# Altium footprint library TSM-102-01-L-SV-P-TR.PcbLib: 1 footprints
Each footprint in its own frame and in the unit in brackets; x right, y up, seen from the top. Pads: shape width x height; smd on the part's side, far side on the other; paste and mask are expansions set on the pad; w line width, h text height; cw(c..) or ccw(c..) is an arc to the next point about the centre after c.
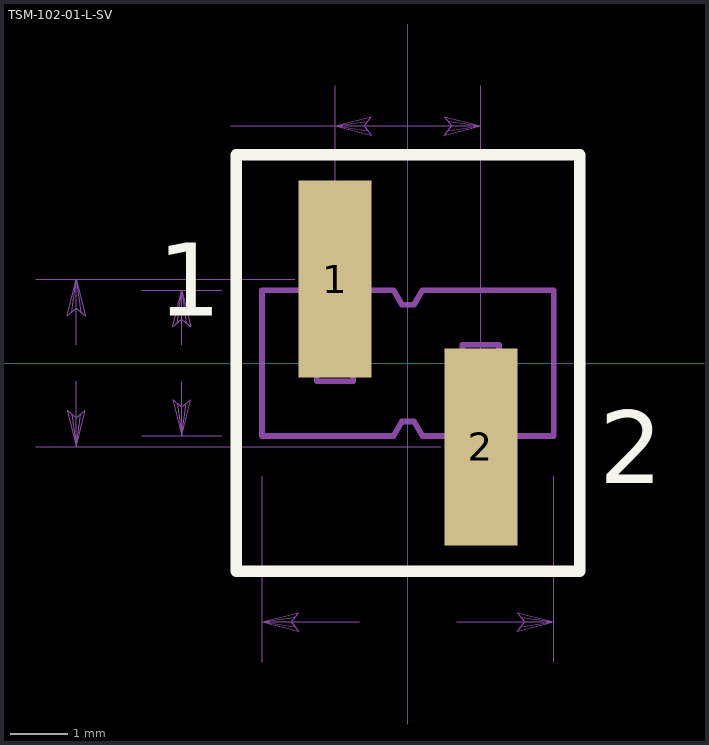
[diagram p0: the footprint, top view; thin cyan lines are the x and y axes]

## TSM-102-01-L-SV [mm]
pads (2):
  rect 1.27x3.43 smd mask+0.051: 1(-1.27,1.46) 2(1.27,-1.46)
Top Overlay:
  lines w0.2: -2.99,-3.627 2.99,-3.627 2.99,3.626 -2.99,3.626 -2.99,-3.627
  text "2" at 3.331,-2.096 h1.27
  text "1" at -4.36,0.826 h1.27
Mechanical 13:
  lines w0: -6.48,-1.46 0.569,-1.46 ; -6.48,1.46 -1.971,1.46 ; -5.778,-0.318 -5.778,-1.46 ; -5.778,0.318 -5.778,1.46 ; -4.638,-1.27 -3.241,-1.27 ; -4.638,1.27 -3.241,1.27 ; -3.937,-0.318 -3.937,-1.27 ; -3.937,0.318 -3.937,1.27 ; -3.086,4.128 -1.27,4.128 ; -2.54,-5.21 -2.54,-1.971 ; -1.27,2.162 -1.27,4.829 ; -0.851,-4.508 -2.54,-4.508 ; 0.851,-4.508 2.54,-4.508 ; 1.27,-0.759 1.27,4.829 ; 2.54,-5.21 2.54,-1.971 ; -5.937,-0.826 -5.858,-0.889 -5.778,-1.46 ; -5.937,-0.826 -5.778,-0.952 ; -5.937,-0.826 -5.778,-1.46 ; -5.778,-1.46 -5.778,-0.952 ; -5.778,-1.46 -5.699,-0.889 -5.778,-0.952 ; -5.778,-1.46 -5.62,-0.826 -5.778,-0.952 ; -5.778,0.952 -5.778,1.46 ; -5.778,0.952 -5.858,0.889 -5.778,1.46 ; -5.778,0.952 -5.62,0.826 ; -5.778,0.952 -5.937,0.826 -5.778,1.46 ; -5.778,1.46 -5.699,0.889 -5.62,0.826 ; -5.778,1.46 -5.62,0.826 ; -4.096,-0.635 -4.016,-0.698 -3.937,-1.27 ; -4.096,-0.635 -3.937,-0.762 ; -4.096,-0.635 -3.937,-1.27 ; -3.937,-1.27 -3.937,-0.762 ; -3.937,-1.27 -3.858,-0.698 -3.937,-0.762 ; -3.937,-1.27 -3.778,-0.635 -3.937,-0.762 ; -3.937,0.762 -3.937,1.27 ; -3.937,0.762 -4.016,0.698 -3.937,1.27 ; -3.937,0.762 -3.778,0.635 ; -3.937,0.762 -4.096,0.635 -3.937,1.27 ; -3.937,1.27 -3.858,0.698 -3.778,0.635 ; -3.937,1.27 -3.778,0.635 ; -2.54,-4.508 -1.968,-4.429 -1.905,-4.35 ; -2.54,-4.508 -2.032,-4.508 ; -2.54,-4.508 -1.968,-4.588 -2.032,-4.508 ; -2.54,-4.508 -1.905,-4.667 -2.032,-4.508 ; -2.54,-4.508 -1.905,-4.35 ; -2.032,-4.508 -1.905,-4.35 ; -1.27,4.128 1.27,4.128 ; -1.27,4.128 -0.698,4.207 -0.635,4.286 ; -1.27,4.128 -0.762,4.128 ; -1.27,4.128 -0.698,4.048 -0.762,4.128 ; -1.27,4.128 -0.635,3.969 -0.762,4.128 ; -1.27,4.128 -0.635,4.286 ; -0.762,4.128 -0.635,4.286 ; 0.635,3.969 0.698,4.048 1.27,4.128 ; 0.635,3.969 0.762,4.128 ; 0.635,3.969 1.27,4.128 ; 0.762,4.128 1.27,4.128 ; 0.762,4.128 0.698,4.207 1.27,4.128 ; 0.762,4.128 0.635,4.286 1.27,4.128 ; 1.905,-4.667 1.968,-4.588 2.54,-4.508 ; 1.905,-4.667 2.032,-4.508 ; 1.905,-4.667 2.54,-4.508 ; 2.032,-4.508 2.54,-4.508 ; 2.032,-4.508 1.968,-4.429 2.54,-4.508 ; 2.032,-4.508 1.905,-4.35 2.54,-4.508
  lines w0.1: -1.586,1.27 -1.586,2.642 -0.951,2.642 -0.951,1.27 ; 0.951,-1.27 0.951,-2.642 1.586,-2.642 1.586,-1.27 ; -2.99,-3.627 2.99,-3.627 2.99,3.626 -2.99,3.626 -2.99,-3.627 ; -2.54,-1.27 -2.54,-1.016 -2.54,1.016 -2.54,1.27 -0.253,1.27 -0.106,1.016 0,1.016 0.106,1.016 0.253,1.27 2.54,1.27 2.54,1.016 2.54,-1.016 2.54,-1.27 0.253,-1.27 0.106,-1.016 0,-1.016 -0.106,-1.016 -0.253,-1.27 -2.54,-1.27 ; -1.586,-0.318 -0.951,-0.318 -0.951,0.318 -1.586,0.318 -1.586,-0.318 ; 0.951,-0.318 1.586,-0.318 1.586,0.318 0.951,0.318 0.951,-0.318
  text "2" at 3.331,-2.096 h1.27
  text "5.080" at -0.66,-4.636 h0.25
  text "2.540" at -4.597,4 h0.25
  text "2.540" at -4.597,-0.127 h0.25
  text "1" at -4.36,0.826 h1.27
  text "2.921" at -6.439,-0.127 h0.25